# EAGLE library part FLAT-FLEX-CONNECTOR-VERT-22POS (library FlashPCB_Connectors)
FLAT-FLEX-CONNECTOR-VERT-22POS - Flat Flex Connector 22 position Vertical Technical Specifications: Number of Positions: 22 Contact: One Side Mount: Vertical
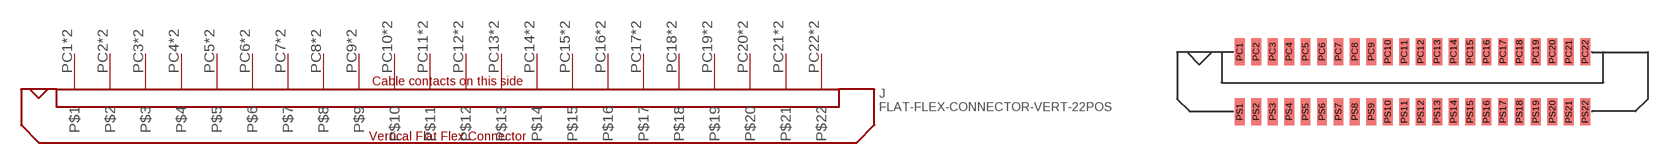
[diagram p131: symbol with the pads of FLAT-FLEX-CONNECTOR-MOLEX-52610-VERT-22POS; footprint FLAT-FLEX-CONNECTOR-MOLEX-52610-VERT-22POS]

Designator prefix J

## FLAT-FLEX-CONNECTOR-VERT-22POS1MM-PITCH  [FLAT-FLEX-CONNECTOR-MOLEX-52610-VERT-22POS]
PC1  P$1
PC2  P$2
PC3  P$3
PC4  P$4
PC5  P$5
PC6  P$6
PC7  P$7
PC8  P$8
PC9  P$9
PC10  P$10
PC11  P$11
PC12  P$12
PC13  P$13
PC14  P$14
PC15  P$15
PC16  P$16
PC17  P$17
PC18  P$18
PC19  P$19
PC20  P$20
PC21  P$21
PC22  P$22
PS1  P$1
PS2  P$2
PS3  P$3
PS4  P$4
PS5  P$5
PS6  P$6
PS7  P$7
PS8  P$8
PS9  P$9
PS10  P$10
PS11  P$11
PS12  P$12
PS13  P$13
PS14  P$14
PS15  P$15
PS16  P$16
PS17  P$17
PS18  P$18
PS19  P$19
PS20  P$20
PS21  P$21
PS22  P$22

## Footprint FLAT-FLEX-CONNECTOR-MOLEX-52610-VERT-22POS (pad centres in mm)
smd 0.6 x 1.65: PC1 -10.5,1.825; PC2 -9.5,1.825; PC3 -8.5,1.825; PC4 -7.5,1.825; PC5 -6.5,1.825; PC6 -5.5,1.825; PC7 -4.5,1.825; PC8 -3.5,1.825; PC9 -2.5,1.825; PC10 -1.5,1.825; PC11 -0.5,1.825; PC12 0.5,1.825; PC13 1.5,1.825; PC14 2.5,1.825; PC15 3.5,1.825; PC16 4.5,1.825; PC17 5.5,1.825; PC18 6.5,1.825; PC19 7.5,1.825; PC20 8.5,1.825; PC21 9.5,1.825; PC22 10.5,1.825; PS1 -10.5,-1.825; PS2 -9.5,-1.825; PS3 -8.5,-1.825; PS4 -7.5,-1.825; PS5 -6.5,-1.825; PS6 -5.5,-1.825; PS7 -4.5,-1.825; PS8 -3.5,-1.825; PS9 -2.5,-1.825; PS10 -1.5,-1.825; PS11 -0.5,-1.825; PS12 0.5,-1.825; PS13 1.5,-1.825; PS14 2.5,-1.825; PS15 3.5,-1.825; PS16 4.5,-1.825; PS17 5.5,-1.825; PS18 6.5,-1.825; PS19 7.5,-1.825; PS20 8.5,-1.825; PS21 9.5,-1.825; PS22 10.5,-1.825